# EAGLE library part PC-ENGINE_912-121A2026S10100 (library PCEMouse_rev_D)
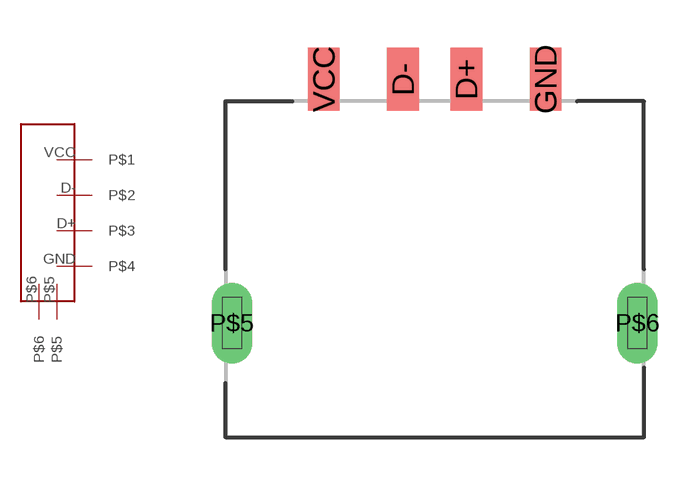
[diagram p0: symbol with the pads of PC-ENGINE_912-121A2026S10100; footprint PC-ENGINE_912-121A2026S10100]

Designator prefix -

## PC-ENGINE_912-121A2026S10100  [PC-ENGINE_912-121A2026S10100]
D+  P$3
D-  P$2
GND  P$4
P$5  P$5
P$6  P$6
VCC  P$1

## Footprint PC-ENGINE_912-121A2026S10100 (pad centres in mm)
smd 1 x 2: D+ 1,6; D- -1,6; GND 3.5,6; VCC -3.5,6
drill 0.6 pad 1.27 long: P$5 -6.4,-1.7; P$6 6.4,-1.7